# Altium schematic symbol library SCH - POWER - LINEAR VREG - TI TPS7A6933-Q1D.SchLib: 1 symbol
Pins are listed as number, name and electrical type; pins without a type are passive.

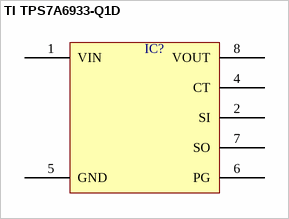
[diagram p0: symbol TI TPS7A6933-Q1D]

## TI TPS7A6933-Q1D
designator IC?  (value not drawn)
pins: 1 VIN, 2 SI, 4 CT, 5 GND, 6 PG, 7 SO, 8 VOUT